# Altium schematic symbol library ACS712.SchLib: 1 symbol
Pins are listed as number, name and electrical type; pins without a type are passive.

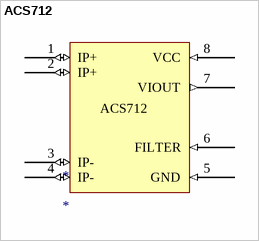
[diagram p0: symbol ACS712]

## ACS712
designator *
footprint SOIC-8 (SOIC, 8-Leads, Body 4/90x3/90mm, Pitch 1/27mm, IPC Medium Density)
pins: 1 IP+ (io), 2 IP+ (io), 3 IP- (io), 4 IP- (io), 5 GND (in), 6 FILTER (in), 7 VIOUT (out), 8 VCC (in)